# EAGLE library part RFMODULE (library pierre_vv)
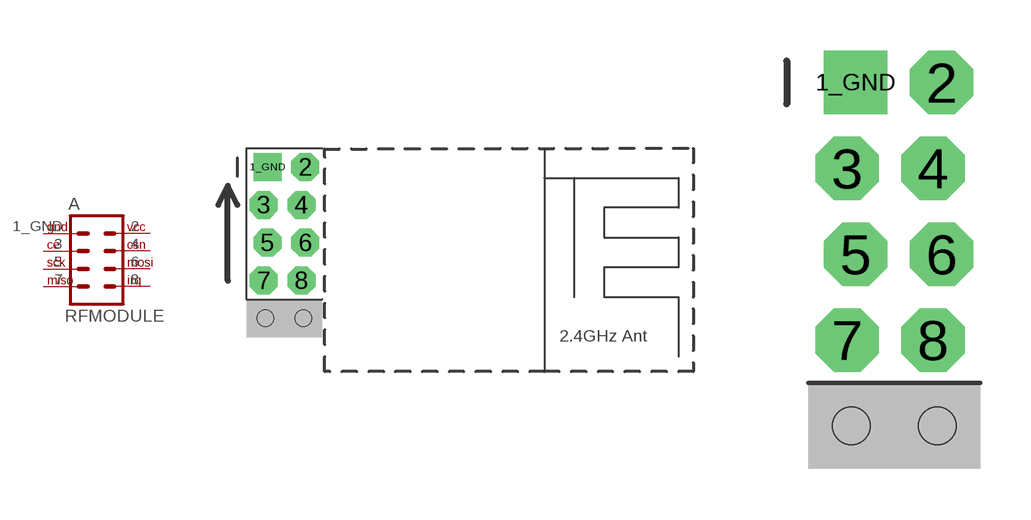
[diagram p3: symbol with the pads of 2X5_RFMODULE; footprints 2X5_RFMODULE, 2X5_RFMODUL_BLANK]

Designator prefix A

## RFMODULE  [2X5_RFMODULE]
1_GND  GND  pas
2  VCC  pas
3  CE  pas
4  CSN  pas
5  SCK  pas
6  MOSI  pas
7  MISO  pas
8  IRQ  pas

## RFMODULEBLANK  [2X5_RFMODUL_BLANK]
Pads as for 2X5_RFMODULE

## RFMODULESPARKFUN  [1X6_RFMODULE_SPARFUN]
1  GND  pas
2  IRQ  pas
3  MISO  pas
4  MOSI  pas
5  SCK  pas
6  CSN  pas
7  CE  pas
8  VCC  pas

## Footprint 2X5_RFMODULE (pad centres in mm)
drill 0.9 pad 1.88 square: 1_GND 1.397,-1.27
drill 0.9 pad 1.88 octagon: 2 3.937,-1.27; 3 1.143,-3.81; 5 1.397,-6.35; 6 3.937,-6.35; 7 1.143,-8.89; 8 3.683,-8.89
drill 0.8 pad 1.88 octagon: 4 3.683,-3.81
hole 1.1 at 1.27,-11.43
hole 1.1 at 3.81,-11.43

## Footprint 2X5_RFMODUL_BLANK (pad centres in mm)
drill 0.9 pad 1.88 square: 1_GND 1.397,-1.27
drill 0.9 pad 1.88 octagon: 2 3.937,-1.27; 3 1.143,-3.81; 5 1.397,-6.35; 6 3.937,-6.35; 7 1.143,-8.89; 8 3.683,-8.89
drill 0.8 pad 1.88 octagon: 4 3.683,-3.81
hole 1.1 at 1.27,-11.43
hole 1.1 at 3.81,-11.43

## Footprint 1X6_RFMODULE_SPARFUN (pad centres in mm)
drill 1.016 pad 1.88 square: 1 -8.89,0.127
drill 1.016 pad 1.88: 2 -6.35,-0.127; 3 -3.81,0.127; 4 -1.27,-0.127; 5 1.27,0.127; 6 3.81,-0.127; 7 6.35,0.127; 8 8.89,-0.127